# EAGLE library part SDCARD (library ct-bot)
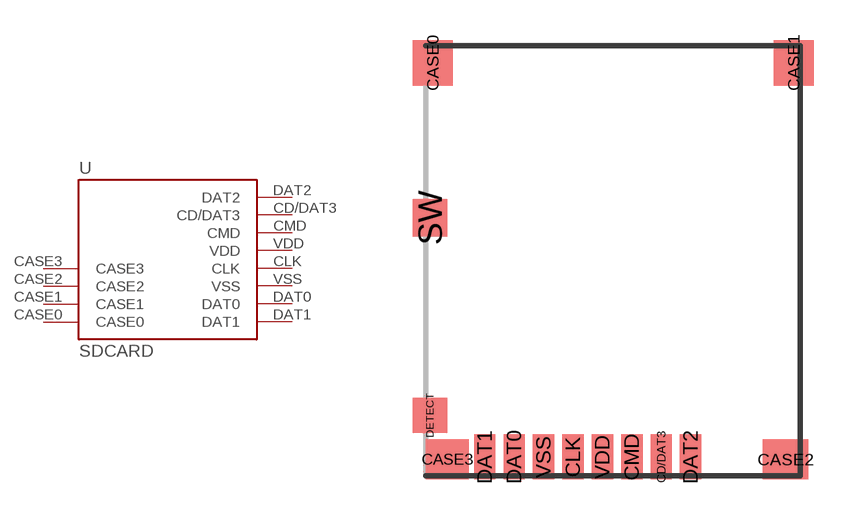
[diagram p26: symbol with the pads of SDCARD; footprint SDCARD]

Designator prefix -

## SDCARD  [SDCARD]
CASE0  CASE0  pwr
CASE1  CASE1  pwr
CASE2  CASE2  pwr
CASE3  CASE3  pwr
CD/DAT3  CD/DAT3
CLK  CLK  in
CMD  CMD
DAT0  DAT0
DAT1  DAT1
DAT2  DAT2
VDD  VDD  pwr
VSS  VSS  pwr

## Footprint SDCARD (pad centres in mm)
smd 1.5 x 1.7: CASE0 -6.25,8.26; CASE1 7.25,8.26
smd 1.7 x 1.5: CASE2 6.95,-6.59
smd 1.6 x 1.5: CASE3 -5.7,-6.59
smd 0.8 x 1.68: CD/DAT3 2.3,-6.5; CLK -1,-6.5; CMD 1.2,-6.5; DAT0 -3.2,-6.5; DAT1 -4.3,-6.5; DAT2 3.4,-6.5; VDD 0.1,-6.5; VSS -2.1,-6.5
smd 1.29 x 1.3: DETECT -6.35,-4.94
smd 1.29 x 1.4: SW -6.35,2.46